# EAGLE library part SI8642 (library LoganSmith-DiscreteSemi)
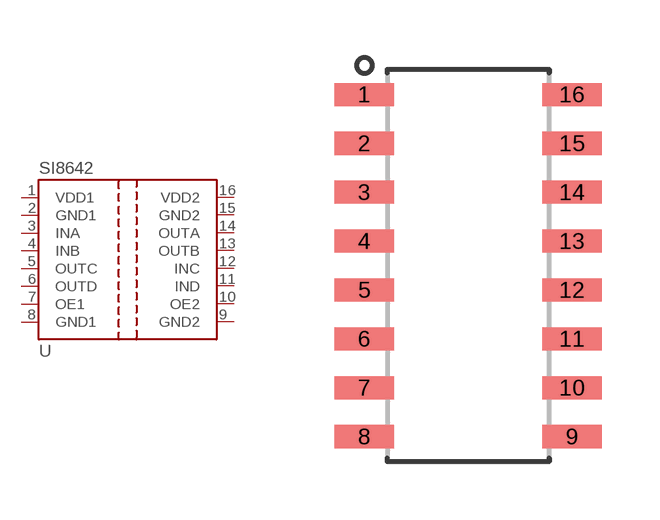
[diagram p2: symbol with the pads of 16-SOIC-NARROW; footprint 16-SOIC-NARROW]

Designator prefix U

## SI8642  [16-SOIC-NARROW]
1  VDD1  pwr
2  GND1  pwr
3  INA  in
4  INB  in
5  OUTC  out
6  OUTD  out
7  OE1  in
8  GND1  pwr
9  GND2  pwr
10  OE2  in
11  IND  in
12  INC  in
13  OUTB  out
14  OUTA  out
15  GND2  pwr
16  VDD2  pwr

## Footprint 16-SOIC-NARROW (pad centres in mm)
SOIC-16 narrow Based on footprint <https://www.silabs.com/Support%20Documents%2fTechnicalDocs%2fSi864x.pdf>
smd 1.55 x 0.6: 1 -2.7,4.445; 2 -2.7,3.175; 3 -2.7,1.905; 4 -2.7,0.635; 5 -2.7,-0.635; 6 -2.7,-1.905; 7 -2.7,-3.175; 8 -2.7,-4.445; 9 2.7,-4.445; 10 2.7,-3.175; 11 2.7,-1.905; 12 2.7,-0.635; 13 2.7,0.635; 14 2.7,1.905; 15 2.7,3.175; 16 2.7,4.445